# Altium schematic symbol library CM105X5R226M16AT.SchLib: 1 symbol
Pins are listed as number, name and electrical type; pins without a type are passive.

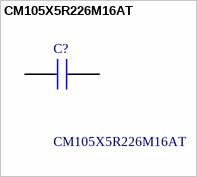
[diagram p0: symbol CM105X5R226M16AT]

## CM105X5R226M16AT
designator C?
Multilayer Ceramic Capacitors MLCC - SMD/SMT 16V 22uF X5R 0603 4mm Pitch 20%; Manufacturer_Name: KYOCERA; Geometry.Height: 1mm; Mouser Part Number: 581-CM105X5R226M16AT; Mouser Price/Stock: https://www.mouser.co.uk/ProductDetail/KYOCERA-AVX/CM105X5R226M16AT?qs=MyNHzdoqoQKX6cMyStcF%2FA%3D%3D; Manufacturer_Part_Number: CM105X5R226M16AT; Datasheet Link: https://www.mouser.de/datasheet/2/40/Kyocera_AVX_Components_CT_Series_e-2933596.pdf
footprint CAPC1608X100N
pins: 1, 2